# Altium footprint library Active.PcbLib: 36 footprints (part 3 of 3)
Each footprint in its own frame and in the unit in brackets; x right, y up, seen from the top. Pads: shape width x height; smd on the part's side, far side on the other; paste and mask are expansions set on the pad; w line width, h text height; cw(c..) or ccw(c..) is an arc to the next point about the centre after c.
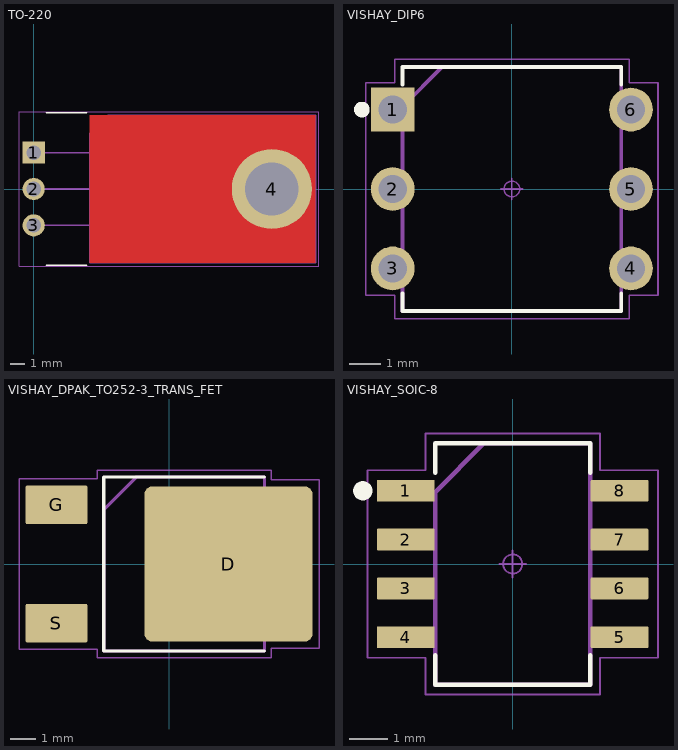
[diagram p2: the footprints below, top view; thin cyan lines are the x and y axes]

## TO-220 [mm]
pads (4):
  rect 1.55x1.55 hole 1.03 paste-2539.97: 1(0,2.54)
  round 1.55 hole 1.03 paste-2539.97: 2(0,0) 3(0,-2.54)
  round 5.6 hole 3.73 paste-2539.97: 4(16.64,0)
Top Layer:
  region: 3.93,-5.14 3.93,5.14 19.68,5.14 19.68,-5.14
Top Overlay:
  lines w0.12: 0.89,-5.32 3.69,-5.32 ; 0.89,5.32 3.69,5.32
Top Solder:
  region: 3.93,-5.14 3.93,5.14 19.68,5.14 19.68,-5.14
Mechanical 11:
  lines w0.12: 0.78,-2.54 3.93,-2.54 ; 0.78,0 3.93,0 ; 0.78,2.54 3.93,2.54 ; 3.93,-5.14 3.93,3.87 5.2,5.14 19.69,5.14 19.69,-5.14 3.93,-5.14
  text ".Designator" at 16.414,2.251 h1
Mechanical 15:
  circle w0.05: c0,2.54 r0.25
  lines w0.05: -0.35,2.54 0.35,2.54 ; 0,2.19 0,2.89 ; -1.025,-5.39 19.93,-5.39 19.93,5.39 -1.025,5.39 -1.025,-5.39
3D body "TO254P1575X1028X482-4.STEP": height 4.82, standoff -2.25, extent -0.025,-5.14 19.68,5.14

## VISHAY_DIP6 [mm] "DIP, 7.62 mm lead span, 2.54 mm pitch; 6 pin, 7.80 mm L X 7.00 mm W X 3.80 mm H body"
pads (6):
  rect 1.4x1.4 hole 0.9 paste-2539.97: 1(-3.81,2.54)
  round 1.4 hole 0.9 paste-2539.97: 2(-3.81,0) 3(-3.81,-2.54) 4(3.81,-2.54) 5(3.81,0) 6(3.81,2.54)
Top Overlay:
  circle w0.25: c-4.795,2.54 r0.125
  lines w0.12: -3.5,-3.34 -3.5,-3.9 3.5,-3.9 3.5,-3.34 ; -3.5,3.34 -3.5,3.9 3.5,3.9 3.5,3.34
Mechanical 11:
  lines w0.12: -3.5,-3.9 -3.5,2.63 -2.23,3.9 3.5,3.9 3.5,-3.9 -3.5,-3.9
  text ".Designator" at -4.502,-0.452 h2
Mechanical 15:
  circle w0.05: c0,0 r0.25
  lines w0.05: -0.35,0 0.35,0 ; 0,-0.35 0,0.35 ; -4.675,-3.405 -4.675,3.405 -3.75,3.405 -3.75,4.15 3.75,4.15 3.75,3.405 4.675,3.405 4.675,-3.405 3.75,-3.405 3.75,-4.15 -3.75,-4.15 -3.75,-3.405 -4.675,-3.405
3D body "VISHAY_DIP6.STEP": height 3.8, standoff -2, extent -3.96,-3.9 3.96,3.9

## VISHAY_DPAK_TO252-3_TRANS_FET [mm] "DPAK, 4.58 mm pitch; 2 pin, 6.095 mm L X 6.54 mm W X 2.39 mm H body"
pads (3):
  rrect10% 6.5x6 smd paste-6.5: D(2.301,0)
  rrect10% 2.4x1.5 smd: G(-4.351,2.29) S(-4.351,-2.29)
Top Overlay:
  lines w0.12: 3.698,-3.37 -2.522,-3.37 -2.522,3.37 3.698,3.37
Top Paste:
  region: 3.691,1.305 3.691,2.695 5.251,2.695 5.251,1.305
  region: 1.521,1.305 1.521,2.695 3.081,2.695 3.081,1.305
  region: -0.649,1.305 -0.649,2.695 0.911,2.695 0.911,1.305
  region: 3.691,-0.695 3.691,0.695 5.251,0.695 5.251,-0.695
  region: 1.521,-0.695 1.521,0.695 3.081,0.695 3.081,-0.695
  region: -0.649,-0.695 -0.649,0.695 0.911,0.695 0.911,-0.695
  region: 3.691,-2.695 3.691,-1.305 5.251,-1.305 5.251,-2.695
  region: 1.521,-2.695 1.521,-1.305 3.081,-1.305 3.081,-2.695
  region: -0.649,-2.695 -0.649,-1.305 0.911,-1.305 0.911,-2.695
Mechanical 11:
  lines w0.12: -2.522,-3.37 3.698,-3.37 3.698,3.37 -1.252,3.37 -2.522,2.1 -2.522,-3.37
  text ".Designator" at -6.762,-0.679 h3
Mechanical 15:
  circle w0.05: c0,0 r0.25
  lines w0.05: -0.35,0 0.35,0 ; 0,-0.35 0,0.35 ; -5.801,-3.29 -2.78,-3.29 -2.78,-3.62 3.95,-3.62 3.95,-3.25 5.801,-3.25 5.801,3.25 3.95,3.25 3.95,3.62 -2.78,3.62 -2.78,3.29 -5.801,3.29 -5.801,-3.29
3D body "VISHAY_DPAK_TO252-3.STEP": height 2.39, standoff 0, extent -5.205,-3.365 5.205,3.365

## VISHAY_SOIC-8 [mm] "Vishay optocoupler Small Outline IC (SOIC), 1.27 mm pitch; 8 pin, 6.185 mm L X 3.91 mm W X 3.50 mm H body"
pads (8):
  rrect10% 1.5x0.57 smd: 1(-2.78,1.905) 2(-2.78,0.635) 3(-2.78,-0.635) 4(-2.78,-1.905) 5(2.78,-1.905) 6(2.78,-0.635) 7(2.78,0.635) 8(2.78,1.905)
Top Overlay:
  circle w0.25: c-3.9,1.905 r0.125
  lines w0.12: -2.02,-2.37 -2.02,-3.14 2.02,-3.14 2.02,-2.37 ; -2.02,2.37 -2.02,3.14 2.02,3.14 2.02,2.37
Mechanical 11:
  lines w0.12: -2.02,-3.14 2.02,-3.14 2.02,3.14 -0.75,3.14 -2.02,1.87 -2.02,-3.14
  text ".Designator" at -4.502,-0.452 h2
Mechanical 15:
  circle w0.05: c0,0 r0.25
  lines w0.05: -0.35,0 0.35,0 ; 0,-0.35 0,0.35 ; -3.78,-2.44 -2.27,-2.44 -2.27,-3.39 2.27,-3.39 2.27,-2.44 3.78,-2.44 3.78,2.44 2.27,2.44 2.27,3.39 -2.27,3.39 -2.27,2.44 -3.78,2.44 -3.78,-2.44
3D body "VISHAY_SOIC-8.STEP": height 3.5, standoff 0, extent -3.175,-3.135 3.175,3.135